# Altium integrated library Components - 05.08.25 - 13.31.IntLib: 1 symbol
Pins are listed as number, name and electrical type; pins without a type are passive.

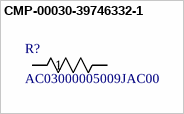
[diagram p0: symbol CMP-00030-39746332-1]

## CMP-00030-39746332-1
designator R?, comment AC03000005009JAC00
AC03000005009JAC00 Res Wirewound 50 Ohm 5% 3W -80ppm/°C to -10ppm/°C Conformal AXL Thru-Hole Ammo Pack; NexarPartId: 39746332; Voltage Rating: 12V; Lead Diameter: 800µm; Resistance: 50Ω; Number of Terminations: 2; Features: Flame Retardant Coating; Number of Pins: 2; Termination: Axial; Diameter: 4.8mm; Packaging: Tape & Box (TB); REACH SVHC: Unknown; Min Operating Temperature: -40°C; Contact Plating: Tin; Length: 13mm; Thickness: 4.8006mm; Power Rating: 3W; Schedule B: 8533210080, 8533210080|8533210080|8533210080|8533210080|8533210080; Temperature Coefficient: -80ppm/°C; Tolerance: 5%; RoHS: Compliant; Radiation Hardening: No; Voltage Rating (DC): 12V; Width: 4.8mm; Max Power Dissipation: 3W; Case/Package: Axial; Composition: Wirewound; Max Operating Temperature: 275°C
pcb RES_AC03_VIS
footprint RES_AC03_VIS
pins: 1, 2